# Altium schematic symbol library ATMEGA328-PU.Schlib: 1 symbol
Pins are listed as number, name and electrical type; pins without a type are passive.

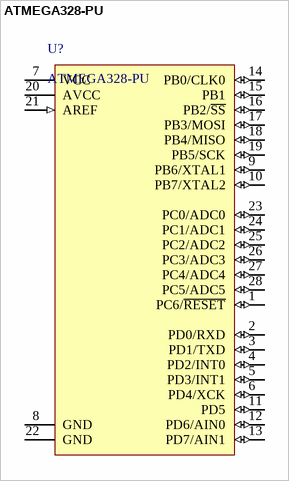
[diagram p0: symbol ATMEGA328-PU]

## ATMEGA328-PU
designator U?
AVR AVR® ATmega Microcontroller IC 8-Bit 20MHz 32KB (16K x 16) FLASH 28-PDIP
pins: 1 PC6/~{RESET} (io), 2 PD0/RXD (io), 3 PD1/TXD (io), 4 PD2/INT0 (io), 5 PD3/INT1 (io), 6 PD4/XCK (io), 7 VCC (power), 8 GND (power), 9 PB6/XTAL1 (io), 10 PB7/XTAL2 (io), 11 PD5 (io), 12 PD6/AIN0 (io), 13 PD7/AIN1 (io), 14 PB0/CLK0 (io), 15 PB1 (io), 16 PB2/~{SS} (io), 17 PB3/MOSI (io), 18 PB4/MISO (io), 19 PB5/SCK (io), 20 AVCC (power), 21 AREF (in), 22 GND (power), 23 PC0/ADC0 (io), 24 PC1/ADC1 (io), 25 PC2/ADC2 (io), 26 PC3/ADC3 (io), 27 PC4/ADC4 (io), 28 PC5/ADC5 (io)